# EAGLE library part BSC010N04LS (library TMC5130_3D_Printer_BOARD_V_2)
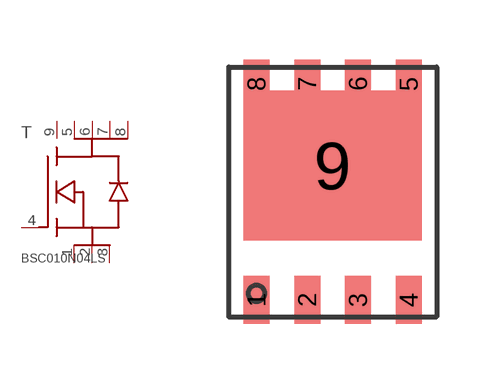
[diagram p0: symbol with the pads of PG-TDSON-8FL; footprint PG-TDSON-8FL]

Designator prefix T

## BSC010N04LS  [PG-TDSON-8FL]
1  1
2  2
3  3
4  4
5  5
6  6
7  7
8  8
9  9

## Footprint PG-TDSON-8FL (pad centres in mm)
smd 0.65 x 1.2: 1 -1.905,-2.705; 2 -0.635,-2.705; 3 0.635,-2.705; 4 1.905,-2.705; 5 1.905,2.705; 6 0.635,2.705; 7 -0.635,2.705; 8 -1.905,2.705
smd 4.46 x 3.75: 9 0,0.66